# EAGLE library part LPC1549JBD48 (library LPC1549JBD48)
NXP - LPC1549JBD48 - 32BIT MCU, CORTEX-M3, 72 MHZ, LQFP-48 Source: Datasheet <http://www.farnell.com/datasheets/1963077.pdf>
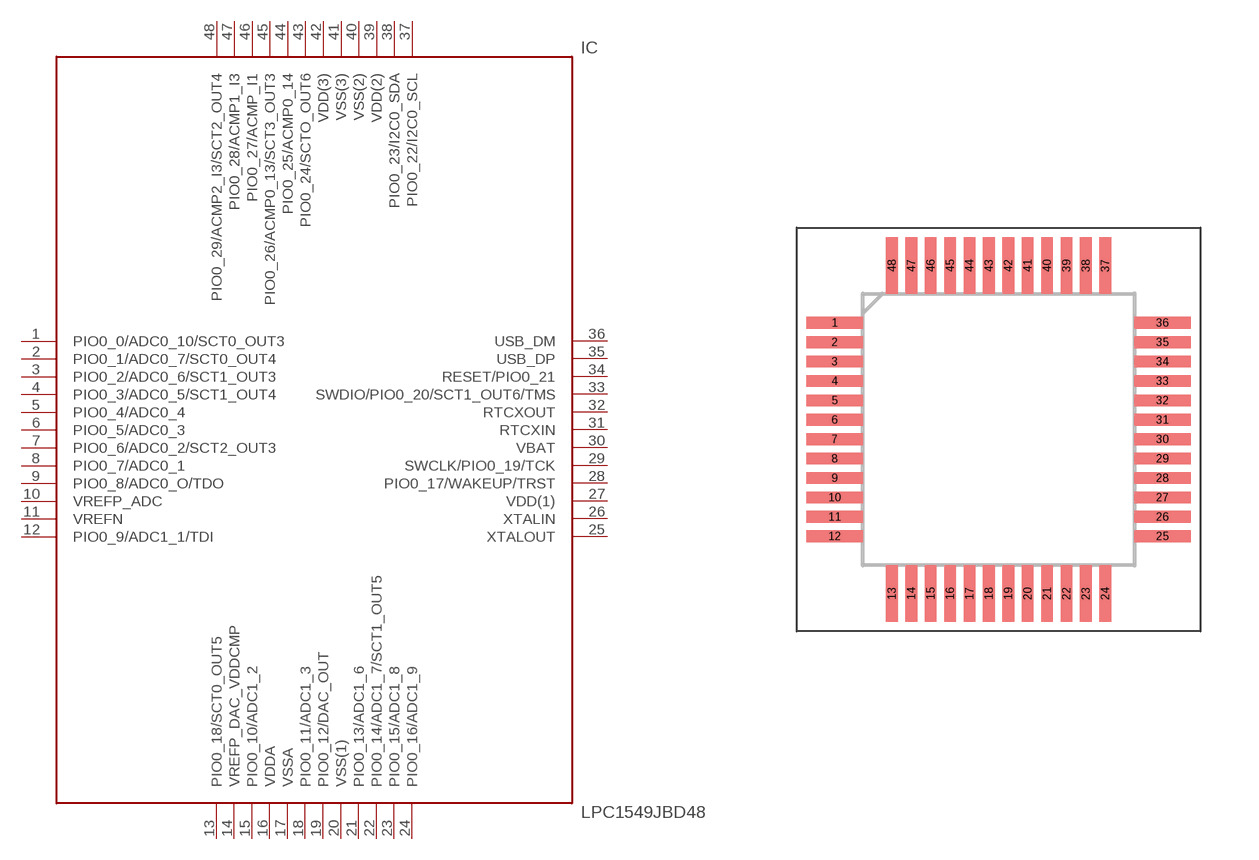
[diagram p0: symbol with the pads of QFP50P900X900X160-48N; footprint QFP50P900X900X160-48N]

Designator prefix IC

## LPC1549JBD48 (Description: NXP - LPC1549JBD48 - 32BIT MCU, CORTEX-M3, 72 MHZ, LQFP-48; Height: 1.6mm; Manufacturer_Name: NXP; Manufacturer_Part_Number: LPC1549JBD48; Supplier_Name: RS)  [QFP50P900X900X160-48N]
1  PIO0_0/ADC0_10/SCT0_OUT3  pas
2  PIO0_1/ADC0_7/SCT0_OUT4  pas
3  PIO0_2/ADC0_6/SCT1_OUT3  pas
4  PIO0_3/ADC0_5/SCT1_OUT4  pas
5  PIO0_4/ADC0_4  pas
6  PIO0_5/ADC0_3  pas
7  PIO0_6/ADC0_2/SCT2_OUT3  pas
8  PIO0_7/ADC0_1  pas
9  PIO0_8/ADC0_O/TDO  pas
10  VREFP_ADC  pas
11  VREFN  pas
12  PIO0_9/ADC1_1/TDI  pas
13  PIO0_18/SCT0_OUT5  pas
14  VREFP_DAC_VDDCMP  pas
15  PIO0_10/ADC1_2  pas
16  VDDA  pas
17  VSSA  pas
18  PIO0_11/ADC1_3  pas
19  PIO0_12/DAC_OUT  pas
20  VSS(1)  pas
21  PIO0_13/ADC1_6  pas
22  PIO0_14/ADC1_7/SCT1_OUT5  pas
23  PIO0_15/ADC1_8  pas
24  PIO0_16/ADC1_9  pas
25  XTALOUT  pas
26  XTALIN  pas
27  VDD(1)  pas
28  PIO0_17/WAKEUP/TRST  pas
29  SWCLK/PIO0_19/TCK  pas
30  VBAT  pas
31  RTCXIN  pas
32  RTCXOUT  pas
33  SWDIO/PIO0_20/SCT1_OUT6/TMS  pas
34  RESET/PIO0_21  pas
35  USB_DP  pas
36  USB_DM  pas
37  PIO0_22/I2C0_SCL  pas
38  PIO0_23/I2C0_SDA  pas
39  VDD(2)  pas
40  VSS(2)  pas
41  VSS(3)  pas
42  VDD(3)  pas
43  PIO0_24/SCTO_OUT6  pas
44  PIO0_25/ACMP0_14  pas
45  PIO0_26/ACMP0_13/SCT3_OUT3  pas
46  PIO0_27/ACMP_I1  pas
47  PIO0_28/ACMP1_I3  pas
48  PIO0_29/ACMP2_I3/SCT2_OUT4  pas

## Footprint QFP50P900X900X160-48N (pad centres in mm)
SOT313-2 (LQFP48)
smd 1.45 x 0.3: 1 -4.225,2.75; 2 -4.225,2.25; 3 -4.225,1.75; 4 -4.225,1.25; 5 -4.225,0.75; 6 -4.225,0.25; 7 -4.225,-0.25; 8 -4.225,-0.75; 9 -4.225,-1.25; 10 -4.225,-1.75; 11 -4.225,-2.25; 12 -4.225,-2.75; 25 4.225,-2.75; 26 4.225,-2.25; 27 4.225,-1.75; 28 4.225,-1.25; 29 4.225,-0.75; 30 4.225,-0.25; 31 4.225,0.25; 32 4.225,0.75; 33 4.225,1.25; 34 4.225,1.75; 35 4.225,2.25; 36 4.225,2.75
smd 0.3 x 1.45: 13 -2.75,-4.225; 14 -2.25,-4.225; 15 -1.75,-4.225; 16 -1.25,-4.225; 17 -0.75,-4.225; 18 -0.25,-4.225; 19 0.25,-4.225; 20 0.75,-4.225; 21 1.25,-4.225; 22 1.75,-4.225; 23 2.25,-4.225; 24 2.75,-4.225; 37 2.75,4.225; 38 2.25,4.225; 39 1.75,4.225; 40 1.25,4.225; 41 0.75,4.225; 42 0.25,4.225; 43 -0.25,4.225; 44 -0.75,4.225; 45 -1.25,4.225; 46 -1.75,4.225; 47 -2.25,4.225; 48 -2.75,4.225